# EAGLE library part XF2M-2015-1A-R100 (library Deegou_Connector)
Rotary Backlock Connector (0.5-mm Pitch, Dual-sided Contact) 20 positions Source: Datasheet <http://www.omron.com/ecb/products/pdf/en-xf2m.pdf>
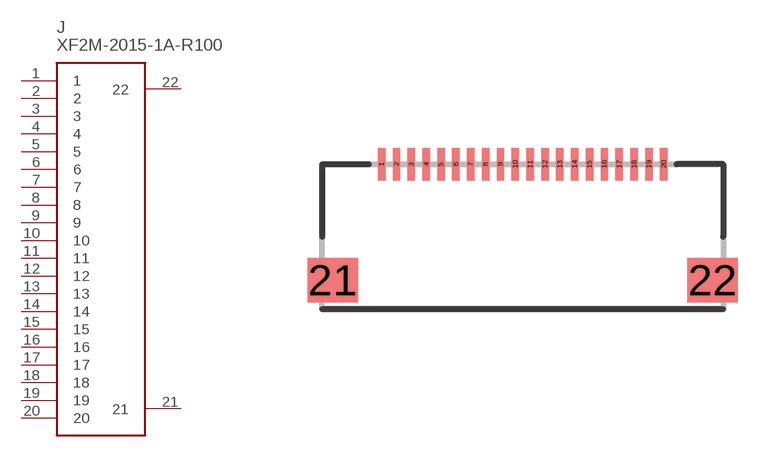
[diagram p26: symbol with the pads of XF2M20151AR100; footprint XF2M20151AR100]

Designator prefix J

## XF2M-2015-1A-R100 (ALLIED_NUMBER: 70667166; ALLIED_PRICE/STOCK: https://www.alliedelec.com/omron-electronic-components-xf2m-2015-1a-r100/70667166/; ARROW_PART_NUMBER: XF2M-2015-1A-R100; DESCRIPTION: Rotary Backlock Connector (0.5-mm Pitch, Dual-sided Contact) 20 positions; HEIGHT: mm; MANUFACTURER_NAME: Omron Electronics; MANUFACTURER_PART_NUMBER: XF2M-2015-1A-R100)  [XF2M20151AR100]
1  1
2  2
3  3
4  4
5  5
6  6
7  7
8  8
9  9
10  10
11  11
12  12
13  13
14  14
15  15
16  16
17  17
18  18
19  19
20  20
21  21
22  22

## Footprint XF2M20151AR100 (pad centres in mm)
XF2M20151AR100
smd 0.25 x 1.1: 1 -4.75,4.88; 2 -4.25,4.88; 3 -3.75,4.88; 4 -3.25,4.88; 5 -2.75,4.88; 6 -2.25,4.88; 7 -1.75,4.88; 8 -1.25,4.88; 9 -0.75,4.88; 10 -0.25,4.88; 11 0.25,4.88; 12 0.75,4.88; 13 1.25,4.88; 14 1.75,4.88; 15 2.25,4.88; 16 2.75,4.88; 17 3.25,4.88; 18 3.75,4.88; 19 4.25,4.88; 20 4.75,4.88
smd 1.7 x 1.5: 21 -6.4,0.98; 22 6.4,0.98